# Altium schematic symbol library Boards.SCHLIB: 4 symbols
Pins are listed as number, name and electrical type; pins without a type are passive.

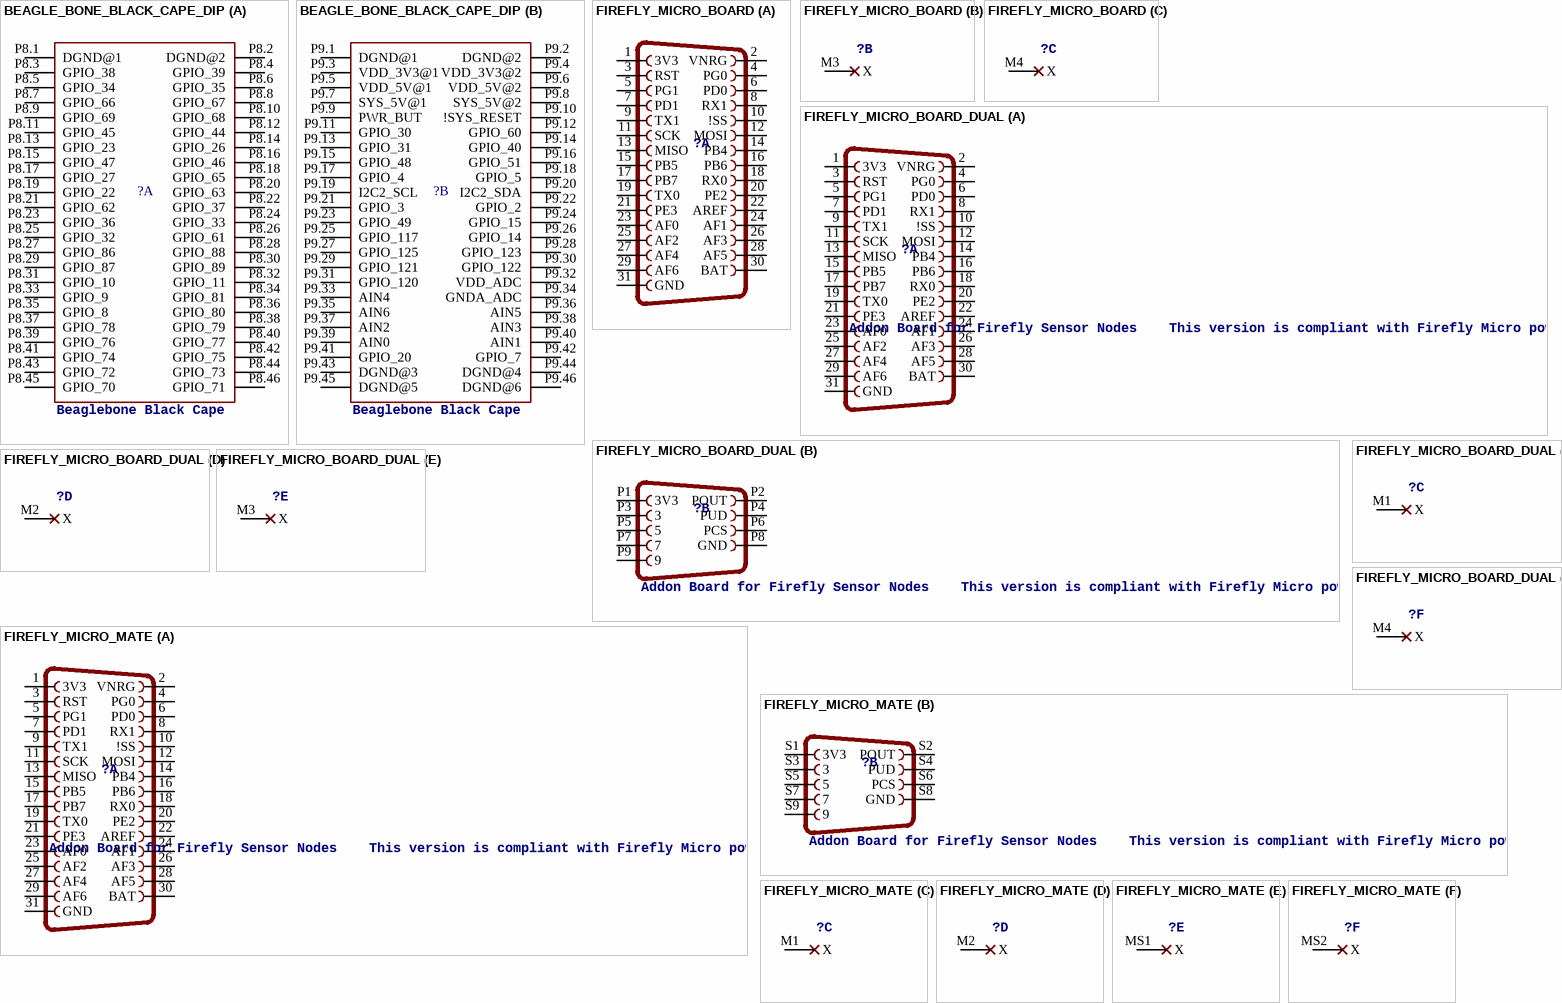
[diagram p0: symbols BEAGLE_BONE_BLACK_CAPE_DIP to FIREFLY_MICRO_MATE]

## BEAGLE_BONE_BLACK_CAPE_DIP
designator ?, comment Beaglebone Black Cape
footprint BEAGLE_BONE_BLACK_CAPE
part A pins: P8.1 DGND@1 (power), P8.2 DGND@2 (power), P8.3 GPIO_38, P8.4 GPIO_39, P8.5 GPIO_34, P8.6 GPIO_35, P8.7 GPIO_66, P8.8 GPIO_67, P8.9 GPIO_69, P8.10 GPIO_68, P8.11 GPIO_45, P8.12 GPIO_44, P8.13 GPIO_23, P8.14 GPIO_26, P8.15 GPIO_47, P8.16 GPIO_46, P8.17 GPIO_27, P8.18 GPIO_65, P8.19 GPIO_22, P8.20 GPIO_63, P8.21 GPIO_62, P8.22 GPIO_37, P8.23 GPIO_36, P8.24 GPIO_33, P8.25 GPIO_32, P8.26 GPIO_61, P8.27 GPIO_86, P8.28 GPIO_88, P8.29 GPIO_87, P8.30 GPIO_89, P8.31 GPIO_10, P8.32 GPIO_11, P8.33 GPIO_9, P8.34 GPIO_81, P8.35 GPIO_8, P8.36 GPIO_80, P8.37 GPIO_78, P8.38 GPIO_79, P8.39 GPIO_76, P8.40 GPIO_77, P8.41 GPIO_74, P8.42 GPIO_75, P8.43 GPIO_72, P8.44 GPIO_73, P8.45 GPIO_70, P8.46 GPIO_71
part B pins: P9.1 DGND@1 (power), P9.2 DGND@2 (power), P9.3 VDD_3V3@1 (power), P9.4 VDD_3V3@2 (power), P9.5 VDD_5V@1 (power), P9.6 VDD_5V@2 (power), P9.7 SYS_5V@1 (power), P9.8 SYS_5V@2, P9.9 PWR_BUT, P9.10 !SYS_RESET, P9.11 GPIO_30, P9.12 GPIO_60, P9.13 GPIO_31, P9.14 GPIO_40, P9.15 GPIO_48, P9.16 GPIO_51, P9.17 GPIO_4, P9.18 GPIO_5, P9.19 I2C2_SCL, P9.20 I2C2_SDA, P9.21 GPIO_3, P9.22 GPIO_2, P9.23 GPIO_49, P9.24 GPIO_15, P9.25 GPIO_117, P9.26 GPIO_14, P9.27 GPIO_125, P9.28 GPIO_123, P9.29 GPIO_121, P9.30 GPIO_122, P9.31 GPIO_120, P9.32 VDD_ADC (power), P9.33 AIN4, P9.34 GNDA_ADC (power), P9.35 AIN6, P9.36 AIN5, P9.37 AIN2, P9.38 AIN3, P9.39 AIN0, P9.40 AIN1, P9.41 GPIO_20, P9.42 GPIO_7, P9.43 DGND@3 (power), P9.44 DGND@4 (power), P9.45 DGND@5 (power), P9.46 DGND@6 (power)

## FIREFLY_MICRO_BOARD
designator ?, comment Addon Board for Firefly Sensor Nodes    This version is compliant with Firefly Micro powered by Atmel Atmega128RFA1.    Connectors on female gender match those on Firefly Micro Board.    Connectors on male gender mate with Firefly Micro Board. Use these for addons.  (value not drawn)
GENDER: Female
footprint FIREFLY_MICRO_BOARD
part A pins: 1 3V3 (power), 2 VNRG (power), 3 RST, 4 PG0, 5 PG1, 6 PD0, 7 PD1, 8 RX1, 9 TX1, 10 !SS, 11 SCK, 12 MOSI, 13 MISO, 14 PB4, 15 PB5, 16 PB6, 17 PB7, 18 RX0, 19 TX0, 20 PE2, 21 PE3, 22 AREF, 23 AF0, 24 AF1, 25 AF2, 26 AF3, 27 AF4, 28 AF5, 29 AF6, 30 BAT, 31 GND (power)
part B pins: M3 X
part C pins: M4 X

## FIREFLY_MICRO_BOARD_DUAL
designator ?, comment Addon Board for Firefly Sensor Nodes    This version is compliant with Firefly Micro powered by Atmel Atmega128RFA1.    Connectors on female gender match those on Firefly Micro Board.    Connectors on male gender mate with Firefly Micro Board. Use these for addons.
GENDER: Female
footprint FIREFLY_MICRO_BOARD_DUAL
part A pins: 1 3V3 (power), 2 VNRG (power), 3 RST, 4 PG0, 5 PG1, 6 PD0, 7 PD1, 8 RX1, 9 TX1, 10 !SS, 11 SCK, 12 MOSI, 13 MISO, 14 PB4, 15 PB5, 16 PB6, 17 PB7, 18 RX0, 19 TX0, 20 PE2, 21 PE3, 22 AREF, 23 AF0, 24 AF1, 25 AF2, 26 AF3, 27 AF4, 28 AF5, 29 AF6, 30 BAT, 31 GND (power)
part B pins: P1 3V3 (power), P2 POUT, P3 3, P4 PUD, P5 5, P6 PCS, P7 7, P8 GND (power), P9 9
part C pins: M1 X
part D pins: M2 X
part E pins: M3 X
part F pins: M4 X

## FIREFLY_MICRO_MATE
designator ?, comment Addon Board for Firefly Sensor Nodes    This version is compliant with Firefly Micro powered by Atmel Atmega128RFA1.    Connectors on female gender match those on Firefly Micro Board.    Connectors on male gender mate with Firefly Micro Board. Use these for addons.
GENDER: Male
footprint FIREFLY_MICRO_MATE
part A pins: 1 3V3 (power), 2 VNRG (power), 3 RST, 4 PG0, 5 PG1, 6 PD0, 7 PD1, 8 RX1, 9 TX1, 10 !SS, 11 SCK, 12 MOSI, 13 MISO, 14 PB4, 15 PB5, 16 PB6, 17 PB7, 18 RX0, 19 TX0, 20 PE2, 21 PE3, 22 AREF, 23 AF0, 24 AF1, 25 AF2, 26 AF3, 27 AF4, 28 AF5, 29 AF6, 30 BAT, 31 GND (power)
part B pins: S1 3V3 (power), S2 POUT, S3 3, S4 PUD, S5 5, S6 PCS, S7 7, S8 GND (power), S9 9
part C pins: M1 X
part D pins: M2 X
part E pins: MS1 X
part F pins: MS2 X